# EAGLE library part A-TIGER_SER_I/O_AL_ (library wilke)
BASIC TIGER Modulreihe A
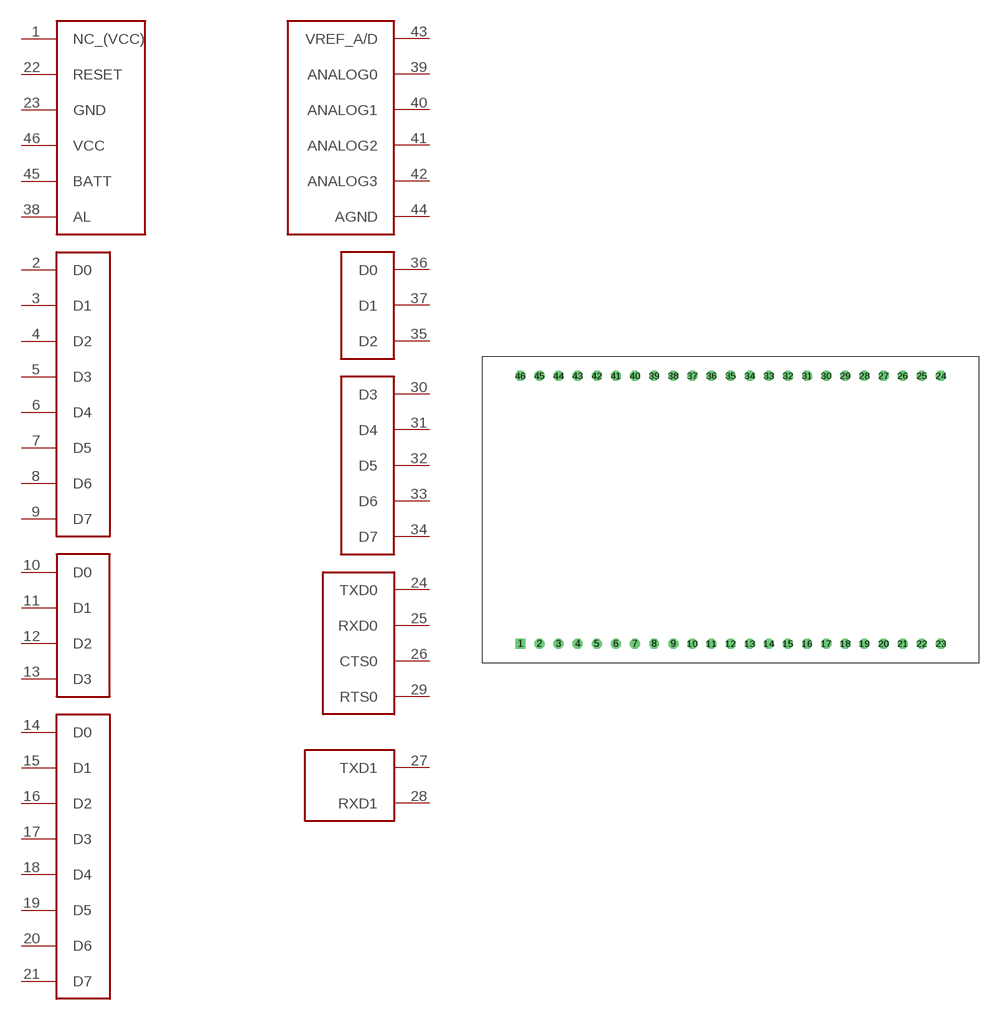
[diagram p0: symbol with the pads of BASICTIGER-A; footprint BASICTIGER-A]

Designator prefix TIGER; gates L6=PORT D0..D7 L8=PORT D0..D7 L7=PORT 4 PWR=PWR_RESET_ALARM ANALOG=ANALOG L4=PORT 3 L3=PORT 5 SER0=SER0 SER1=SER1

## A-TIGER_SER_I/O_AL_A  [BASICTIGER-A]
1  PWR:NC_(VCC)
2  L6:D0
3  L6:D1
4  L6:D2
5  L6:D3
6  L6:D4
7  L6:D5
8  L6:D6
9  L6:D7
10  L7:D0
11  L7:D1
12  L7:D2
13  L7:D3
14  L8:D0
15  L8:D1
16  L8:D2
17  L8:D3
18  L8:D4
19  L8:D5
20  L8:D6
21  L8:D7
22  PWR:RESET  in
23  PWR:GND  pwr
24  SER0:TXD0
25  SER0:RXD0
26  SER0:CTS0
27  SER1:TXD1
28  SER1:RXD1
29  SER0:RTS0
30  L3:D3
31  L3:D4
32  L3:D5
33  L3:D6
34  L3:D7
35  L4:D2
36  L4:D0
37  L4:D1
38  PWR:AL  out
39  ANALOG:ANALOG0  in
40  ANALOG:ANALOG1  in
41  ANALOG:ANALOG2  in
42  ANALOG:ANALOG3  in
43  ANALOG:VREF_A/D
44  ANALOG:AGND
45  PWR:BATT  pwr
46  PWR:VCC  pwr

## Footprint BASICTIGER-A (pad centres in mm)
BasicTiger-A
drill 0.813 square: 1 0,0
drill 0.813 octagon: 2 2.54,0; 3 5.08,0; 4 7.62,0; 5 10.16,0; 6 12.7,0; 7 15.24,0; 8 17.78,0; 9 20.32,0; 10 22.86,0; 11 25.4,0; 12 27.94,0; 13 30.48,0; 14 33.02,0; 15 35.56,0; 16 38.1,0; 17 40.64,0; 18 43.18,0; 19 45.72,0; 20 48.26,0; 21 50.8,0; 22 53.34,0; 23 55.88,0; 24 55.88,35.56; 25 53.34,35.56; 26 50.8,35.56; 27 48.26,35.56; 28 45.72,35.56; 29 43.18,35.56; 30 40.64,35.56; 31 38.1,35.56; 32 35.56,35.56; 33 33.02,35.56; 34 30.48,35.56; 35 27.94,35.56; 36 25.4,35.56; 37 22.86,35.56; 38 20.32,35.56; 39 17.78,35.56; 40 15.24,35.56; 41 12.7,35.56; 42 10.16,35.56; 43 7.62,35.56; 44 5.08,35.56; 45 2.54,35.56; 46 0,35.56